# Altium schematic symbol library data_cards.SchLib: 5 symbols
Pins are listed as number, name and electrical type; pins without a type are passive.

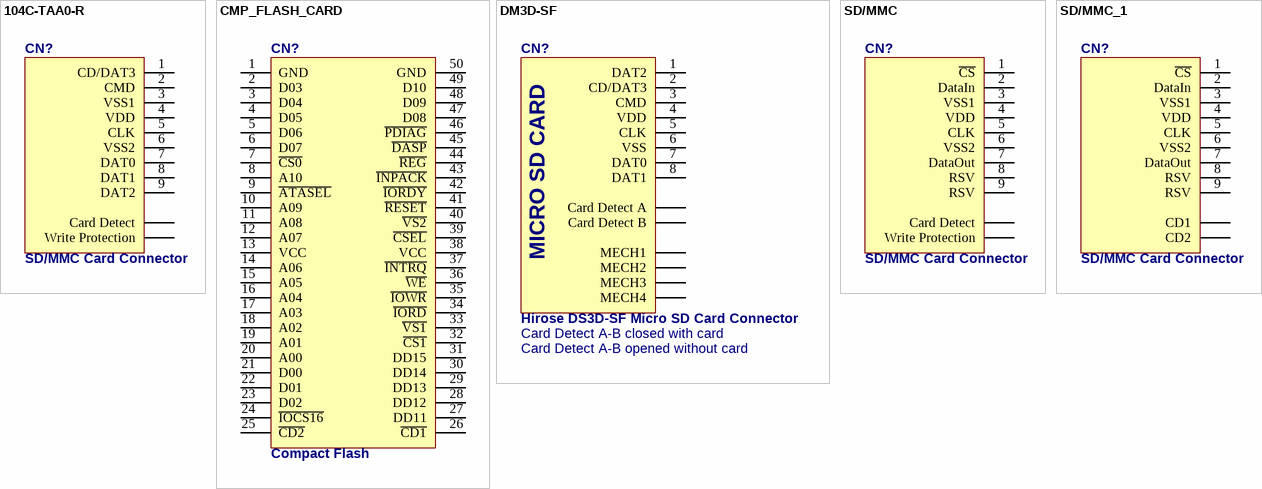
[diagram p0: symbols 104C-TAA0-R to SD/MMC_1]

## 104C-TAA0-R
designator CN?, comment SD/MMC Card Connector
Supplier 1: TME; Supplier Part Number 1: MCC-SD
footprint 104C-TAA0-R (Attend Technology SD/MMC Card Connector)
pins: 1 CD/DAT3, 2 CMD, 3 VSS1, 4 VDD, 5 CLK, 6 VSS2, 7 DAT0, 8 DAT1, 9 DAT2, CardDetect Card Detect, GND1 hidden to GND, GND2 hidden to GND, GND3 hidden to GND, GND4 hidden to GND, WriteProtect Write Protection

## CMP_FLASH_CARD
designator CN?, comment Compact Flash
Compact Flash Card Slot
footprint CF Socket
footprint CF Socket 2
pins: 1 GND, 2 D03, 3 D04, 4 D05, 5 D06, 6 D07, 7 ~{CS0}, 8 A10, 9 ~{ATASEL}, 10 A09, 11 A08, 12 A07, 13 VCC, 14 A06, 15 A05, 16 A04, 17 A03, 18 A02, 19 A01, 20 A00, 21 D00, 22 D01, 23 D02, 24 ~{IOCS16}, 25 ~{CD2}, 26 ~{CD1}, 27 DD11, 28 DD12, 29 DD13, 30 DD14, 31 DD15, 32 ~{CS1}, 33 ~{VS1}, 34 ~{IORD}, 35 ~{IOWR}, 36 ~{WE}, 37 ~{INTRQ}, 38 VCC, 39 ~{CSEL}, 40 ~{VS2}, 41 ~{RESET}, 42 ~{IORDY}, 43 ~{INPACK}, 44 ~{REG}, 45 ~{DASP}, 46 ~{PDIAG}, 47 D08, 48 D09, 49 D10, 50 GND
1 alternate drawing of the same symbol

## DM3D-SF
designator CN?, comment Hirose DS3D-SF Micro SD Card Connector
DM3D Micro SD, Push-Pull (no ejection mechanism) Card Connector; Producer: Hirose
footprint DM3D-SF (Hirose DM3D-SF, Push-Pull (no ejection mechanism) Micro SD Card Socket)
pins: 1 DAT2, 2 CD/DAT3, 3 CMD, 4 VDD, 5 CLK, 6 VSS, 7 DAT0, 8 DAT1, CD1 Card Detect A, CD2 Card Detect B, Mech1 MECH1, Mech2 MECH2, Mech3 MECH3, Mech4 MECH4
text: MICRO SD CARD; Card Detect A-B closed with card; Card Detect A-B opened without card

## SD/MMC
designator CN?, comment SD/MMC Card Connector
footprint SD/MMC
footprint SD/MMC 2
pins: 1 ~{CS}, 2 DataIn, 3 VSS1, 4 VDD, 5 CLK, 6 VSS2, 7 DataOut, 8 RSV, 9 RSV, CardDetect Card Detect, GND1 hidden to GND, GND2 hidden to GND, GND3 hidden to GND, GND4 hidden to GND, WriteProtect Write Protection

## SD/MMC_1
designator CN?, comment SD/MMC Card Connector
footprint PCBComponent_1
pins: 1 ~{CS}, 2 DataIn, 3 VSS1, 4 VDD, 5 CLK, 6 VSS2, 7 DataOut, 8 RSV, 9 RSV, CD1, CD2